# Altium schematic symbol library Schlib2.SchLib: 3 symbols
Pins are listed as number, name and electrical type; pins without a type are passive.

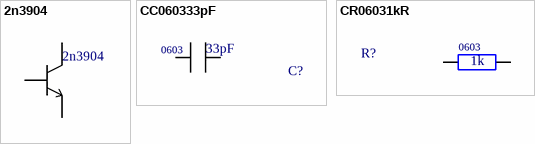
[diagram p0: symbols 2n3904 to CR06031kR]

## 2n3904
designator C_?  (value not drawn)
pins: 4, 5, 6

## CC060333pF
designator C?  (value not drawn)
CC060333pF; Value: 33pF
pins: 2, 3
text: 0603

## CR06031kR
designator R?, comment Resistor  (value not drawn)
CR06031kR; Value: 1k
pins: 0, 1
text: 0603